# Altium schematic symbol library 常用非芯片类.SchLib: 23 symbols
Pins are listed as number, name and electrical type; pins without a type are passive.

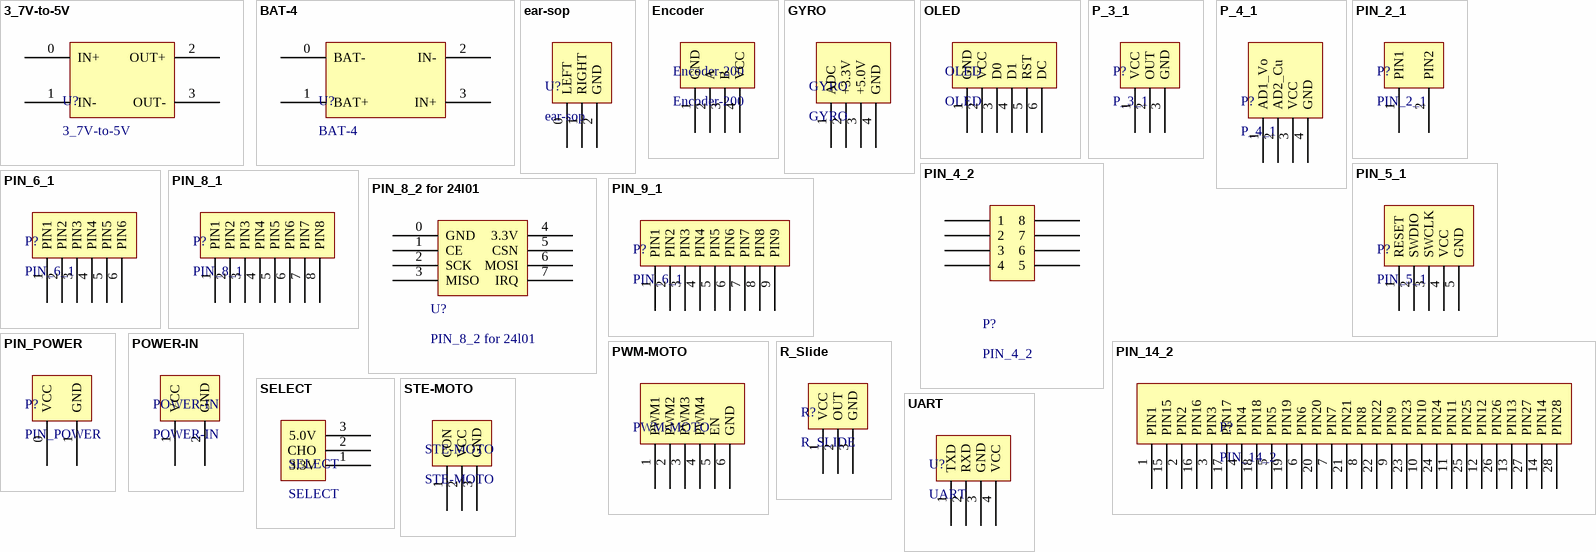
[diagram p0: symbols 3_7V-to-5V to UART]

## 3_7V-to-5V
designator U?
footprint 3_7V-to-5V
pins: 0 IN+, 1 IN-, 2 OUT+, 3 OUT-

## BAT-4
designator U?
footprint BAT-4
pins: 0 BAT-, 1 BAT+, 2 IN-, 3 IN+

## ear-sop
designator U?
footprint ear-sop
pins: 0 LEFT, 1 RIGHT, 2 GND

## Encoder
designator Encoder-200, comment Encoder-200
footprint HX2.54-4
pins: 1 GND, 2 A, 3 B, 4 VCC

## GYRO
designator GYRO
footprint HX2.54-4
pins: 1 ADC, 2 +3.3V, 3 +5.0V, 4 GND

## OLED
designator OLED
footprint HX2.54-6
pins: 1 GND, 2 VCC, 3 D0, 4 D1, 5 RST, 6 DC

## P_3_1
designator P?
footprint SIP3
pins: 1 VCC, 2 OUT, 3 GND

## P_4_1
designator P?
footprint SIP4
pins: 1 AD1_Vo, 2 AD2_Cu, 3 VCC, 4 GND

## PIN_2_1
designator P?
footprint 2PIN
pins: 1 PIN1, 2 PIN2

## PIN_4_2
designator P?
pins: ?1 1, ?2 2, ?3 3, ?4 4, ?5 5, ?6 6, ?7 7, ?8 8

## PIN_5_1
designator P?
footprint SIP5
pins: 1 RESET, 2 SWDIO, 3 SWCLK, 4 VCC, 5 GND

## PIN_6_1
designator P?
footprint SIP6
pins: 1 PIN1, 2 PIN2, 3 PIN3, 4 PIN4, 5 PIN5, 6 PIN6

## PIN_8_1
designator P?
footprint SIP8
pins: 1 PIN1, 2 PIN2, 3 PIN3, 4 PIN4, 5 PIN5, 6 PIN6, 7 PIN7, 8 PIN8

## PIN_8_2 for 24l01
designator U?
footprint PIN_8_2 for 24l01
pins: 0 GND, 1 CE, 2 SCK, 3 MISO, 4 3.3V, 5 CSN, 6 MOSI, 7 IRQ

## PIN_9_1
designator P?, comment PIN_6_1
footprint SIP9
pins: 1 PIN1, 2 PIN2, 3 PIN3, 4 PIN4, 5 PIN5, 6 PIN6, 7 PIN7, 8 PIN8, 9 PIN9

## PIN_14_2
designator P?
footprint PIN_14_2
pins: 1 PIN1, 2 PIN2, 3 PIN3, 4 PIN4, 5 PIN5, 6 PIN6, 7 PIN7, 8 PIN8, 9 PIN9, 10 PIN10, 11 PIN11, 12 PIN12, 13 PIN13, 14 PIN14, 15 PIN15, 16 PIN16, 17 PIN17, 18 PIN18, 19 PIN19, 20 PIN20, 21 PIN21, 22 PIN22, 23 PIN23, 24 PIN24, 25 PIN25, 26 PIN26, 27 PIN27, 28 PIN28

## PIN_POWER
designator P?
footprint PIN_POWER
pins: 0 VCC, 1 GND

## POWER-IN
designator POWER-IN
pins: 1 VCC, 2 GND

## PWM-MOTO
designator PWM-MOTO  (value not drawn)
footprint HX2.54-6
pins: 1 PWM1, 2 PWM2, 3 PWM3, 4 PWM4, 5 EN, 6 GND

## R_Slide
designator R?, comment R_SLIDE
footprint HDR1X3 (Connector; Header; 3 Position)
pins: 1 VCC, 2 OUT, 3 GND

## SELECT
designator SELECT
footprint HX2.54-3
pins: 1 3.3V, 2 CHO, 3 5.0V

## STE-MOTO
designator STE-MOTO
footprint HX2.54-3
pins: 1 CON, 2 VCC, 3 GND

## UART
designator U?
footprint HX2.54-4
pins: 1 TXD, 2 RXD, 3 GND, 4 VCC